# Altium footprint library Pt1000.PcbLib: 1 footprints
Each footprint in its own frame and in the unit in brackets; x right, y up, seen from the top. Pads: shape width x height; smd on the part's side, far side on the other; paste and mask are expansions set on the pad; w line width, h text height; cw(c..) or ccw(c..) is an arc to the next point about the centre after c.
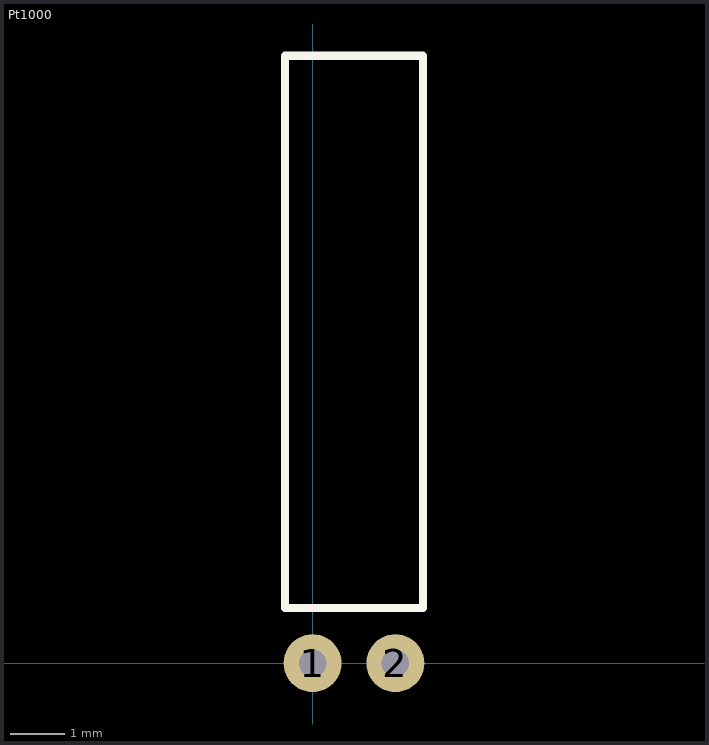
[diagram p0: the footprint, top view; thin cyan lines are the x and y axes]

## Pt1000 [mil]
pads (2):
  round 42 hole 20: 1(0,0) 2(60,0)
Top Overlay:
  lines w6: -20,40 -20,440 80,440 80,40 -20,40
3D body: height 59.06, standoff 0, extent -20,40 80,440